# EAGLE library part LTC4055 (library eric-custom)
USB Power Controller and Li-Ion Charge
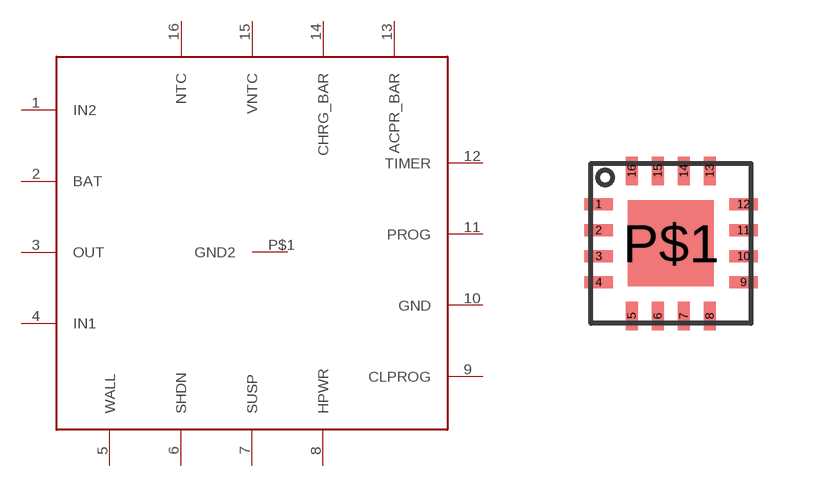
[diagram p22: symbol with the pads of 16QFN-4MMX4MM; footprint 16QFN-4MMX4MM]

Designator prefix -

## LTC4055  [16QFN-4MMX4MM]
1  IN2
2  BAT
3  OUT
4  IN1
5  WALL
6  SHDN
7  SUSP
8  HPWR
9  CLPROG
10  GND
11  PROG
12  TIMER
13  ACPR_BAR
14  CHRG_BAR
15  VNTC
16  NTC
P$1  GND2

## Footprint 16QFN-4MMX4MM (pad centres in mm)
smd 0.72 x 0.3: 1 -1.812,0.975; 2 -1.812,0.325; 3 -1.812,-0.325; 4 -1.812,-0.975; 9 1.812,-0.975; 10 1.812,-0.325; 11 1.812,0.325; 12 1.812,0.975
smd 0.3 x 0.72: 5 -0.975,-1.812; 6 -0.325,-1.812; 7 0.325,-1.812; 8 0.975,-1.812; 13 0.975,1.812; 14 0.325,1.812; 15 -0.325,1.812; 16 -0.975,1.812
smd 2.15 x 2.15: P$1 0,0